# Altium footprint library C64Interface.PcbLib: 31 footprints (part 2 of 2)
Each footprint in its own frame and in the unit in brackets; x right, y up, seen from the top. Pads: shape width x height; smd on the part's side, far side on the other; paste and mask are expansions set on the pad; w line width, h text height; cw(c..) or ccw(c..) is an arc to the next point about the centre after c.
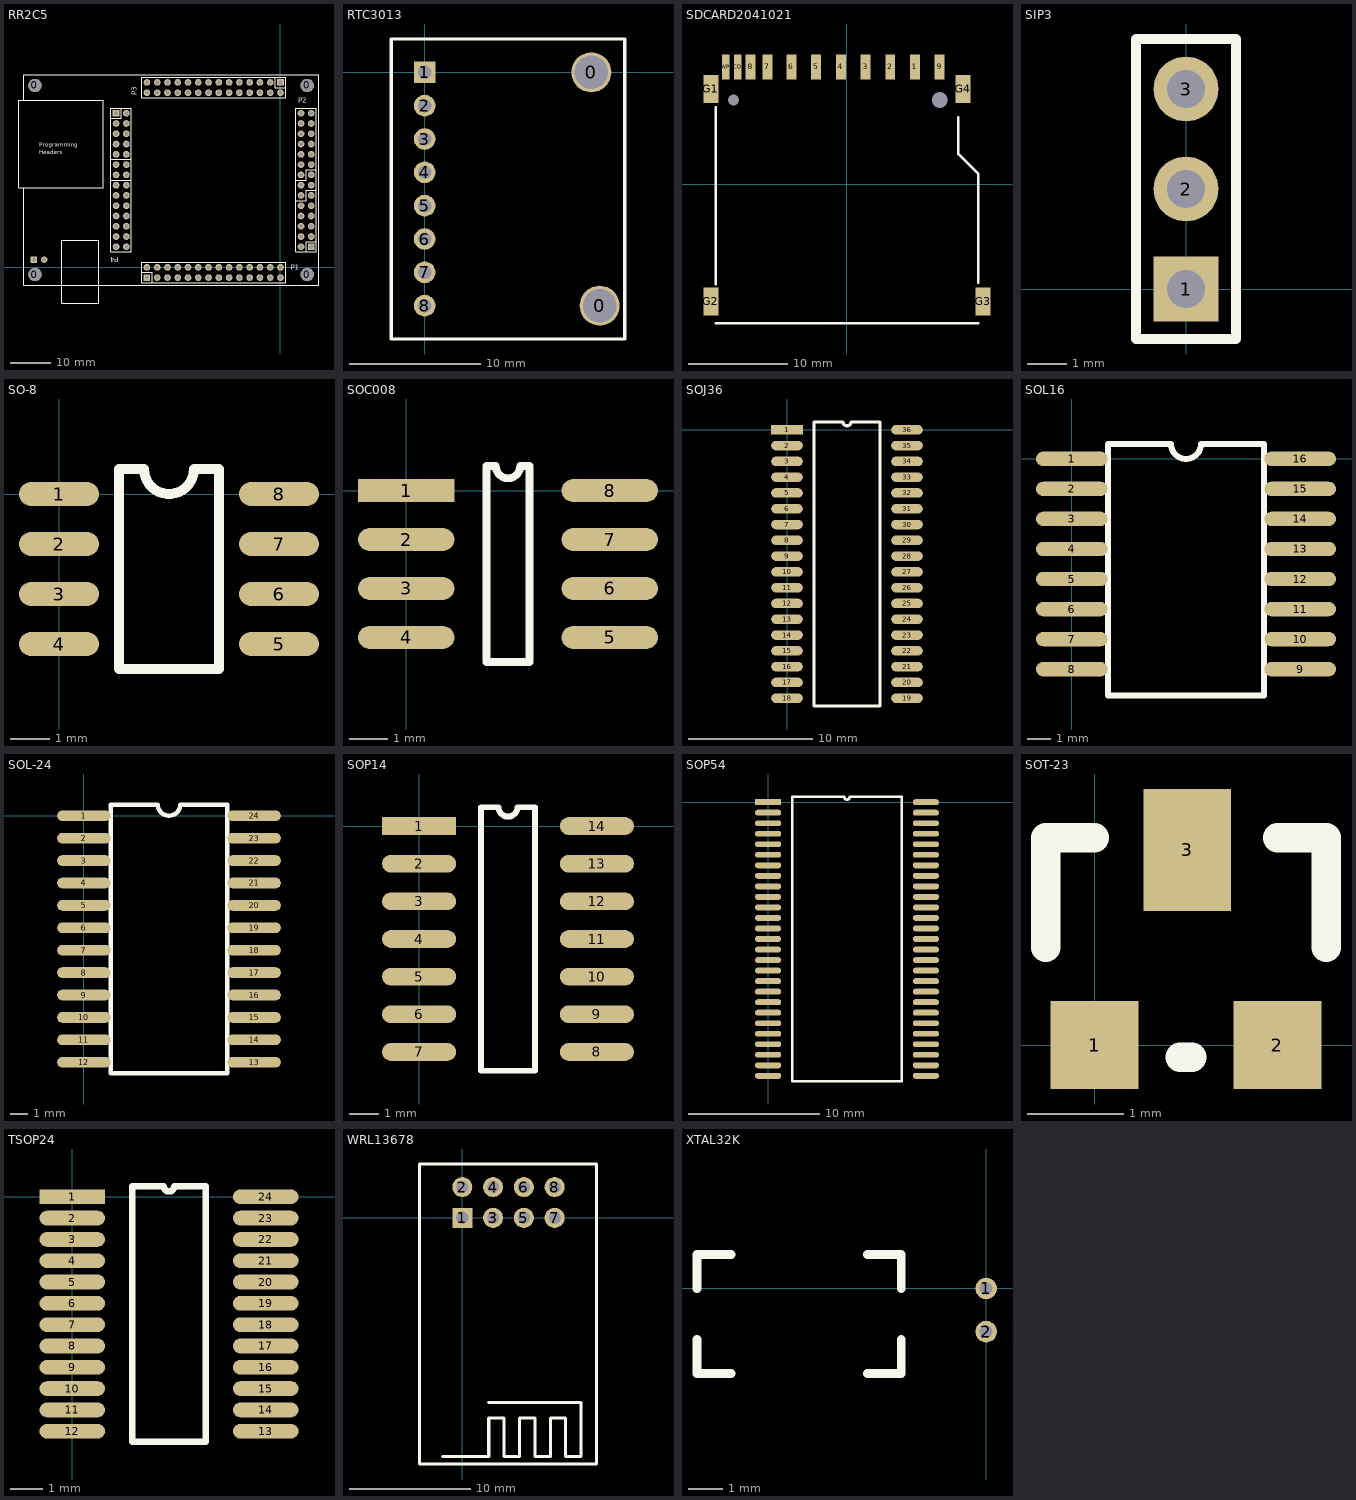
[diagram p1: the footprints below, top view; thin cyan lines are the x and y axes]

## RR2C5 [mil]
pads (118):
  round 130 hole 125 mask+10: 0(-2390,-70) 0(-2390,1770) 0(260,-70) 0(260,1770)
  rect 62x62 hole 40 mask+10: 1(-2400,75)
  round 62 hole 40 mask+10: 2(-2300,75)
  rect 65x65 hole 40: A1(-1300,-100) B1(300,200) C1(0,1800) D1(-1600,1500)
  round 65 hole 40: A2(-1300,0) A3(-1200,-100) A4(-1200,0) A5(-1100,-100) A6(-1100,0) A7(-1000,-100) A8(-1000,0) A9(-900,-100) A10(-900,0) A11(-800,-100) A12(-800,0) A13(-700,-100) A14(-700,0) A15(-600,-100) A16(-600,0) A17(-500,-100) A18(-500,0) A19(-400,-100) A20(-400,0) A21(-300,-100) A22(-300,0) A23(-200,-100) A24(-200,0) A25(-100,-100) A26(-100,0) A27(0,-100) A28(0,0) B2(200,200) B3(300,300) B4(200,300) B5(300,400) B6(200,400) B7(300,500) B8(200,500) B9(300,600) B10(200,600) B11(300,700) B12(200,700) B13(300,800) B14(200,800) B15(300,900) B16(200,900) B17(300,1000) B18(200,1000) B19(300,1100) B20(200,1100) B21(300,1200) B22(200,1200) B23(300,1300) B24(200,1300) B25(300,1400) B26(200,1400) B27(300,1500) B28(200,1500) C2(0,1700) C3(-100,1800) C4(-100,1700) C5(-200,1800) C6(-200,1700) C7(-300,1800) C8(-300,1700) C9(-400,1800) C10(-400,1700) C11(-500,1800) C12(-500,1700) C13(-600,1800) C14(-600,1700) C15(-700,1800) C16(-700,1700) C17(-800,1800) C18(-800,1700) C19(-900,1800) C20(-900,1700) C21(-1000,1800) C22(-1000,1700) C23(-1100,1800) C24(-1100,1700) C25(-1200,1800) C26(-1200,1700) C27(-1300,1800) C28(-1300,1700) D2(-1500,1500) D3(-1600,1400) D4(-1500,1400) D5(-1600,1300) D6(-1500,1300) D7(-1600,1200) D8(-1500,1200) D9(-1600,1100) D10(-1500,1100) D11(-1600,1000) D12(-1500,1000) D13(-1600,900) D14(-1500,900) D15(-1600,800) D16(-1500,800) D17(-1600,700) D18(-1500,700) D19(-1600,600) D20(-1500,600) D21(-1600,500) D22(-1500,500) D23(-1600,400) D24(-1500,400) D25(-1600,300) D26(-1500,300) D27(-1600,200) D28(-1500,200)
Top Overlay:
  lines w10: -2500,775 -2500,-175 375,-175 375,1875 -2500,1875 -2500,1625 -1725,1625 ; -2130,-180 -2130,-350 -1770,-350 -1770,-175 -1770,265 -2130,265 -2130,-175 ; -1725,800 -1725,1575 ; -1650,850 -1450,850 ; -1650,1050 -1450,1050 ; -1650,1450 -1550,1450 -1550,1550 ; -1350,-50 -1250,-50 -1250,-150 ; -50,1850 -50,1750 50,1750 ; 150,650 250,650 250,750 350,750 ; 150,850 250,850 250,950 350,950 ; 250,150 250,250 350,250 ; -1725,1625 -1725,775 -2545,775 -2545,1625 -1725,1625 ; -1650,150 -1650,1550 -1450,1550 -1450,150 -1650,150 ; -1350,-150 -1350,50 50,50 50,-150 -1350,-150 ; -1350,1650 50,1650 50,1850 -1350,1850 -1350,1650 ; 150,150 150,1550 350,1550 350,150 150,150
  text "P4" at -1575,100 h50
  text "P3" at -1400,1675 h50
  text "P2" at 175,1600 h50
  text "P1" at 100,-25 h50
  text "Programming" at -2350,1175 h40
  text "Headers" at -2350,1100 h40

## RTC3013 [mil]
pads (10):
  round 120 hole 100: 0(500,0) 0(525,-700)
  rect 65x65 hole 40: 1(0,0)
  round 65 hole 40: 2(0,-100) 3(0,-200) 4(0,-300) 5(0,-400) 6(0,-500) 7(0,-600) 8(0,-700)
Top Overlay:
  lines w10: -100,-800 600,-800 600,100 -100,100 -100,-800

## SDCARD2041021 [mm]
pads (17):
  rect 1x2.5 smd: 1(6.875,11.863) 2(4.375,11.863) 3(1.875,11.863) 4(-0.625,11.863) 5(-3.125,11.863) 6(-5.625,11.863) 7(-8.055,11.863) 8(-9.755,11.863) 9(9.375,11.863)
  rect 0.75x2.5 smd: CD(-11.055,11.863) WP(-12.255,11.863)
  rect 1.5x2.8 smd: G1(-13.775,9.638) G2(-13.775,-11.862) G3(13.775,-11.862) G4(11.75,9.638)
  round 0.5 hole 1.1 unplated: H(-11.5,8.513)
  round 0.5 hole 1.6 unplated: H(9.375,8.513)
Top Overlay:
  lines w0.254: -13.3,-14.087 13.3,-14.087 ; -13.3,-10.112 -13.3,7.763 ; 11.275,6.763 11.275,3.038 13.3,1.013 13.3,-9.987

## SIP3 [mil]
pads (3):
  rect 65x65 hole 38: 1(0,0)
  round 65 hole 38: 2(0,100) 3(0,200)
Top Overlay:
  lines w10: -50,-50 -50,250 50,250 50,-50 -50,-50

## SO-8 [mil]
pads (8):
  oval 80x24 smd: 1(0,0) 2(0,-50) 3(0,-100) 4(0,-150) 5(220,-150) 6(220,-100) 7(220,-50) 8(220,0)
Top Overlay:
  lines w10: 60,-175 160,-175 160,25 135,25 cw(c110,25) 85,25 60,25 60,-175

## SOC008 [mm]
pads (8):
  rect 2.5x0.6 smd: 1(0,0)
  oval 2.5x0.6 smd: 2(0,-1.27) 3(0,-2.54) 4(0,-3.81) 5(5.28,-3.81) 6(5.28,-2.54) 7(5.28,-1.27) 8(5.28,0)
Top Overlay:
  lines w0.2: 2.085,-4.445 2.085,0.635 2.322,0.635 ccw(c2.64,0.635) 2.957,0.635 3.195,0.635 3.195,-4.445 2.085,-4.445

## SOJ36 [mil]
pads (36):
  rect 100x30 smd: 1(0,0)
  oval 100x30 smd: 2(0,-50) 3(0,-100) 4(0,-150) 5(0,-200) 6(0,-250) 7(0,-300) 8(0,-350) 9(0,-400) 10(0,-450) 11(0,-500) 12(0,-550) 13(0,-600) 14(0,-650) 15(0,-700) 16(0,-750) 17(0,-800) 18(0,-850) 19(380,-850) 20(380,-800) 21(380,-750) 22(380,-700) 23(380,-650) 24(380,-600) 25(380,-550) 26(380,-500) 27(380,-450) 28(380,-400) 29(380,-350) 30(380,-300) 31(380,-250) 32(380,-200) 33(380,-150) 34(380,-100) 35(380,-50) 36(380,0)
Top Overlay:
  lines w10: 85,-875 85,25 177.5,25 ccw(c190,25) 202.5,25 295,25 295,-875 85,-875

## SOL16 [mil]
pads (16):
  oval 119.37x24 smd: 1(0,0) 2(0,-50) 3(0,-100) 4(0,-150) 5(0,-200) 6(0,-250) 7(0,-300) 8(0,-350) 9(380,-350) 10(380,-300) 11(380,-250) 12(380,-200) 13(380,-150) 14(380,-100) 15(380,-50) 16(380,0)
Top Overlay:
  lines w10: 60,-393.7 60,25 165,25 ccw(c190,25) 215,25 320,25 320,-393.7 60,-393.7

## SOL-24 [mil]
pads (24):
  oval 119.37x24 smd: 1(0,0) 2(0,-50) 3(0,-100) 4(0,-150) 5(0,-200) 6(0,-250) 7(0,-300) 8(0,-350) 9(0,-400) 10(0,-450) 11(0,-500) 12(0,-550) 13(380,-550) 14(380,-500) 15(380,-450) 16(380,-400) 17(380,-350) 18(380,-300) 19(380,-250) 20(380,-200) 21(380,-150) 22(380,-100) 23(380,-50) 24(380,0)
Top Overlay:
  lines w10: 60,-575 60,25 165,25 ccw(c190,25) 215,25 320,25 320,-575 60,-575

## SOP14 [mm]
pads (14):
  rect 2.5x0.6 smd: 1(0,0)
  oval 2.5x0.6 smd: 2(0,-1.27) 3(0,-2.54) 4(0,-3.81) 5(0,-5.08) 6(0,-6.35) 7(0,-7.62) 8(6,-7.62) 9(6,-6.35) 10(6,-5.08) 11(6,-3.81) 12(6,-2.54) 13(6,-1.27) 14(6,0)
Top Overlay:
  lines w0.2: 2.085,-8.255 3.915,-8.255 3.915,0.635 3.317,0.635 cw(c3,0.635) 2.682,0.635 2.085,0.635 2.085,-8.255

## SOP54 [mm]
pads (54):
  rect 2x0.45 smd: 1(0,0)
  oval 2x0.45 smd: 2(0,-0.8) 3(0,-1.6) 4(0,-2.4) 5(0,-3.2) 6(0,-4) 7(0,-4.8) 8(0,-5.6) 9(0,-6.4) 10(0,-7.2) 11(0,-8) 12(0,-8.8) 13(0,-9.6) 14(0,-10.4) 15(0,-11.2) 16(0,-12) 17(0,-12.8) 18(0,-13.6) 19(0,-14.4) 20(0,-15.2) 21(0,-16) 22(0,-16.8) 23(0,-17.6) 24(0,-18.4) 25(0,-19.2) 26(0,-20) 27(0,-20.8) 28(12,-20.8) 29(12,-20) 30(12,-19.2) 31(12,-18.4) 32(12,-17.6) 33(12,-16.8) 34(12,-16) 35(12,-15.2) 36(12,-14.4) 37(12,-13.6) 38(12,-12.8) 39(12,-12) 40(12,-11.2) 41(12,-10.4) 42(12,-9.6) 43(12,-8.8) 44(12,-8) 45(12,-7.2) 46(12,-6.4) 47(12,-5.6) 48(12,-4.8) 49(12,-4) 50(12,-3.2) 51(12,-2.4) 52(12,-1.6) 53(12,-0.8) 54(12,0)
Top Overlay:
  lines w0.2: 1.835,-21.2 10.165,-21.2 10.165,0.4 6.2,0.4 cw(c6,0.4) 5.8,0.4 1.835,0.4 1.835,-21.2

## SOT-23 [mil]
pads (3):
  rect 36x36 smd: 1(0,0) 2(75,0)
  rect 36x50 smd: 3(38,80)
Top Overlay:
  lines w12: -20,40 -20,85 0,85 ; 35,-5 40,-5 ; 75,85 95,85 95,40

## TSOP24 [mm]
pads (24):
  rect 2x0.45 smd: 1(0,0)
  oval 2x0.45 smd: 2(0,-0.65) 3(0,-1.3) 4(0,-1.95) 5(0,-2.6) 6(0,-3.25) 7(0,-3.9) 8(0,-4.55) 9(0,-5.2) 10(0,-5.85) 11(0,-6.5) 12(0,-7.15) 13(5.9,-7.15) 14(5.9,-6.5) 15(5.9,-5.85) 16(5.9,-5.2) 17(5.9,-4.55) 18(5.9,-3.9) 19(5.9,-3.25) 20(5.9,-2.6) 21(5.9,-1.95) 22(5.9,-1.3) 23(5.9,-0.65) 24(5.9,0)
Top Overlay:
  lines w0.2: 1.835,-7.475 1.835,0.325 2.788,0.325 ccw(c2.95,0.325) 3.112,0.325 4.065,0.325 4.065,-7.475 1.835,-7.475

## WRL13678 [mil]
pads (8):
  rect 65x65 hole 40: 1(0,0)
  round 65 hole 40: 2(0,100) 3(100,0) 4(100,100) 5(200,0) 6(200,100) 7(300,0) 8(300,100)
Top Overlay:
  lines w10: -63.97,-775 86.03,-775 86.03,-650 136.03,-650 136.03,-775 186.03,-775 186.03,-650 236.03,-650 236.03,-775 286.03,-775 286.03,-650 336.03,-650 336.03,-775 386.03,-775 386.03,-600 86.03,-600 ; -138.97,-800 -138.97,175 436.03,175 436.03,-800 -138.97,-800

## XTAL32K [mil]
pads (2):
  round 25 hole 15 unplated mask+10: 1(0,0) 2(0,-50)
Top Overlay:
  lines w10: -334.65,-59.06 -334.65,-98.43 -295.28,-98.43 ; -334.65,0 -334.65,39.37 -295.28,39.37 ; -137.8,-98.43 -98.43,-98.43 -98.43,-59.06 ; -137.8,39.37 -98.43,39.37 -98.43,0